# Altium footprint library Samsung-ChipResistors.PcbLib: 12 footprints
Each footprint in its own frame and in the unit in brackets; x right, y up, seen from the top. Pads: shape width x height; smd on the part's side, far side on the other; paste and mask are expansions set on the pad; w line width, h text height; cw(c..) or ccw(c..) is an arc to the next point about the centre after c.
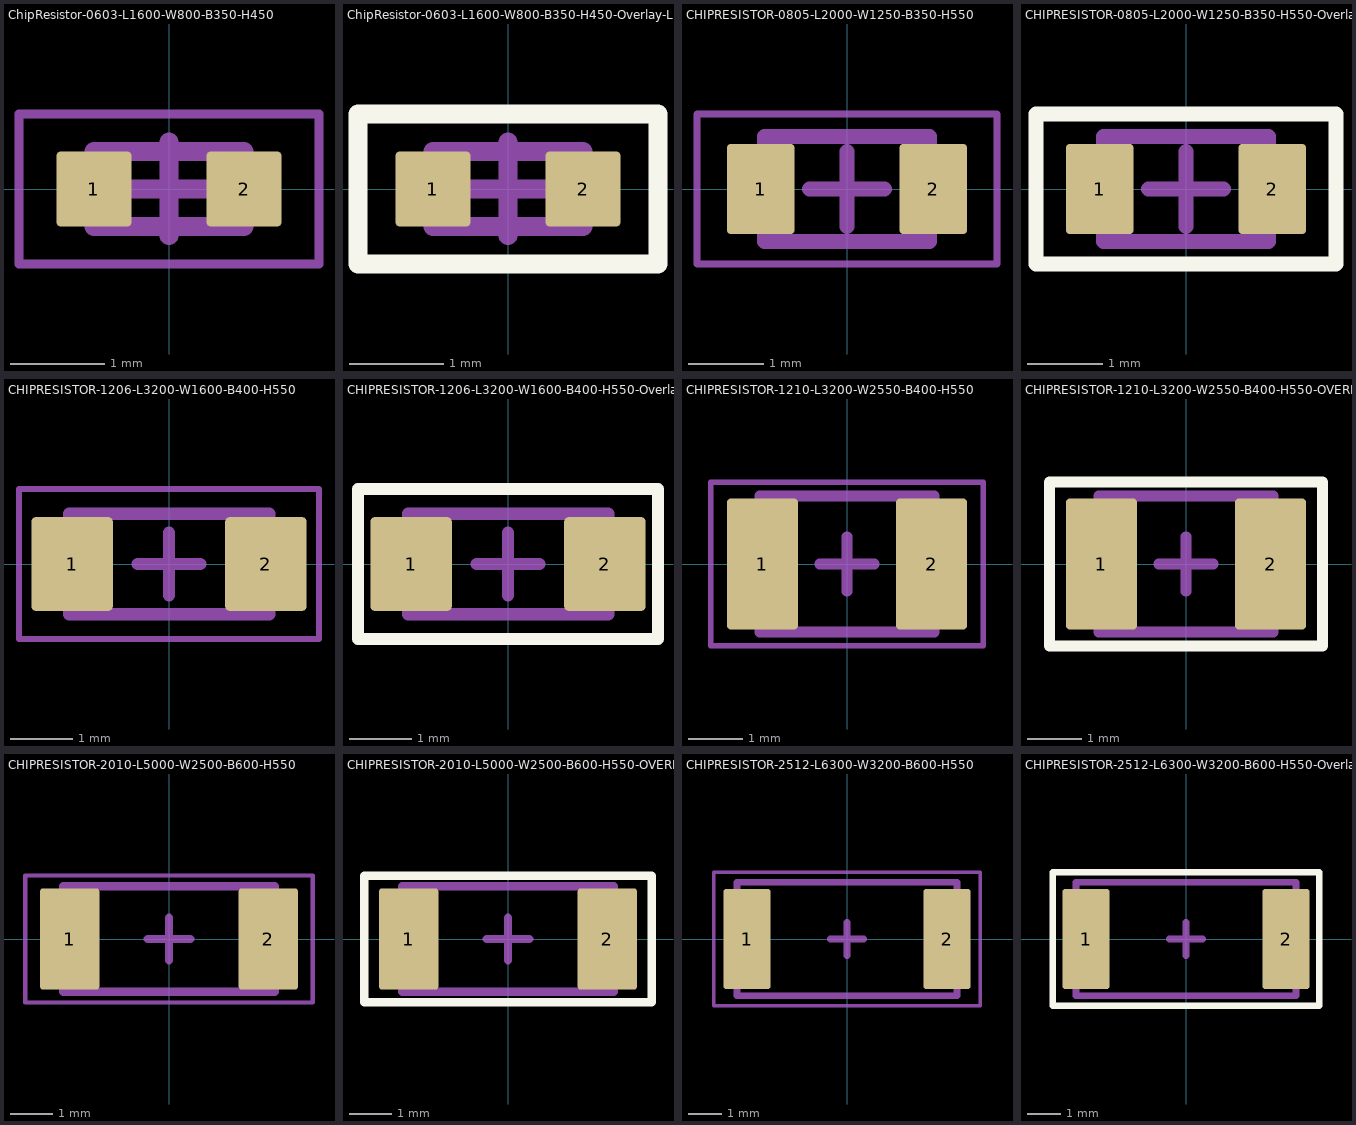
[diagram p0: the footprints below, top view; thin cyan lines are the x and y axes]

## ChipResistor-0603-L1600-W800-B350-H450 [mm] "Chip Resistor, 2-Leads, Body 1.600x0.800x0.450mm, IPC Medium Density"
height 0.45
pads (2):
  rrect10% 0.8x0.8 smd: 1(-0.8,0) 2(0.8,0)
Top Courtyard:
  lines w0.1: -1.6,-0.8 1.6,-0.8 1.6,0.8 -1.6,0.8 -1.6,-0.8
  lines w0.2: -0.5,0 0.5,0 ; 0,-0.5 0,0.5
Top Assembly:
  lines w0.2: -0.8,-0.4 0.8,-0.4 0.8,0.4 -0.8,0.4 -0.8,-0.4
Top Designator (Mech10):
  text ".Designator" at -7.618,-0.508 h1.52
3D body "Samsung-ChipResistors0603.STEP": height 0.5, standoff 0, extent -0.8,-0.4 0.8,0.4

## ChipResistor-0603-L1600-W800-B350-H450-Overlay-L3200-W1600 [mm] "Chip Resistor, 2-Leads, Body 1.600x0.800x0.450mm, IPC Medium Density"
height 0.45
pads (2):
  rrect10% 0.8x0.8 smd: 1(-0.8,0) 2(0.8,0)
Top Overlay:
  lines w0.2: -1.6,-0.8 1.6,-0.8 1.6,0.8 -1.6,0.8 -1.6,-0.8
Top Courtyard:
  lines w0.1: -1.6,-0.8 -1.6,0.8 1.6,0.8 1.6,-0.8 -1.6,-0.8
  lines w0.2: -0.5,0 0.5,0 ; 0,-0.5 0,0.5
Top Assembly:
  lines w0.2: -0.8,-0.4 0.8,-0.4 0.8,0.4 -0.8,0.4 -0.8,-0.4
Top Designator (Mech10):
  text ".Designator" at -7.618,-0.508 h1.52
3D body "Samsung-ChipResistors0603.STEP": height 0.5, standoff 0, extent -0.8,-0.4 0.8,0.4

## CHIPRESISTOR-0805-L2000-W1250-B350-H550 [mm] "Chip Resistor, 2-Leads, Body 2.000x1.250x0.550mm, IPC Medium Density"
height 0.55
pads (2):
  rrect10% 0.9x1.2 smd: 1(-1.15,0) 2(1.15,0)
Top Courtyard:
  lines w0.1: -2,-1 2,-1 2,1 -2,1 -2,-1
  lines w0.2: -0.5,0 0.5,0 ; 0,-0.5 0,0.5
Top Assembly:
  lines w0.2: -1.1,-0.7 -1.1,0.7 1.1,0.7 1.1,-0.7 -1.1,-0.7
Top Designator (Mech10):
  text ".Designator" at -7.618,-0.508 h1.52
3D body "Samsung-ChipResistors0805.STEP": height 0.6, standoff 0, extent -1,-0.625 1,0.625

## CHIPRESISTOR-0805-L2000-W1250-B350-H550-Overlay-L4000-W2000 [mm] "Chip Resistor, 2-Leads, Body 2.000x1.250x0.550mm, IPC Medium Density"
height 0.55
pads (2):
  rrect10% 0.9x1.2 smd: 1(-1.15,0) 2(1.15,0)
Top Overlay:
  lines w0.2: -2,-1 2,-1 2,1 -2,1 -2,-1
Top Courtyard:
  lines w0.1: -2,-1 -2,1 2,1 2,-1 -2,-1
  lines w0.2: -0.5,0 0.5,0 ; 0,-0.5 0,0.5
Top Assembly:
  lines w0.2: -1.1,-0.7 1.1,-0.7 1.1,0.7 -1.1,0.7 -1.1,-0.7
Top Designator (Mech10):
  text ".Designator" at -7.618,-0.508 h1.52
3D body "Samsung-ChipResistors0805.STEP": height 0.6, standoff 0, extent -1,-0.625 1,0.625

## CHIPRESISTOR-1206-L3200-W1600-B400-H550 [mm] "Chip Resistor, 2-Leads, Body 3.200x1.600mm, IPC Medium Density"
height 0.55
pads (2):
  rrect10% 1.3x1.5 smd: 1(-1.55,0) 2(1.55,0)
Top Courtyard:
  lines w0.1: -2.4,-1.2 2.4,-1.2 2.4,1.2 -2.4,1.2 -2.4,-1.2
  lines w0.2: -0.5,0 0.5,0 ; 0,-0.5 0,0.5
Top Assembly:
  lines w0.2: -1.6,-0.8 1.6,-0.8 1.6,0.8 -1.6,0.8 -1.6,-0.8
Top Designator (Mech10):
  text ".Designator" at -7.618,-0.508 h1.52
3D body "Samsung-ChipResistors1206.STEP": height 0.6, standoff 0, extent -1.6,-0.8 1.6,0.8

## CHIPRESISTOR-1206-L3200-W1600-B400-H550-Overlay-L4800-W2400 [mm] "Chip Resistor, 2-Leads, Body 3.200x1.600mm, IPC Medium Density"
height 0.55
pads (2):
  rrect10% 1.3x1.5 smd: 1(-1.55,0) 2(1.55,0)
Top Overlay:
  lines w0.2: -2.4,-1.2 2.4,-1.2 2.4,1.2 -2.4,1.2 -2.4,-1.2
Top Courtyard:
  lines w0.1: -2.4,-1.2 2.4,-1.2 2.4,1.2 -2.4,1.2 -2.4,-1.2
  lines w0.2: -0.5,0 0.5,0 ; 0,-0.5 0,0.5
Top Assembly:
  lines w0.2: -1.6,-0.8 1.6,-0.8 1.6,0.8 -1.6,0.8 -1.6,-0.8
Top Designator (Mech10):
  text ".Designator" at -7.618,-0.508 h1.52
3D body "Samsung-ChipResistors1206.STEP": height 0.6, standoff 0, extent -1.6,-0.8 1.6,0.8

## CHIPRESISTOR-1210-L3200-W2550-B400-H550 [mm] "Chip Resistor, 2-Leads, Body 3.200x2.550mm, IPC Medium Density"
height 0.55
pads (2):
  rrect10% 1.3x2.4 smd: 1(-1.55,0) 2(1.55,0)
Top Courtyard:
  lines w0.1: -2.5,-1.5 -2.5,1.5 2.5,1.5 2.5,-1.5 -2.5,-1.5
  lines w0.2: -0.5,0 0.5,0 ; 0,-0.5 0,0.5
Top Assembly:
  lines w0.2: -1.6,-1.25 1.6,-1.25 1.6,1.25 -1.6,1.25 -1.6,-1.25
Top Designator (Mech10):
  text ".Designator" at -7.618,-0.508 h1.52
3D body "Samsung-ChipResistors1210.STEP": height 0.6, standoff 0, extent -1.6,-1.275 1.6,1.275

## CHIPRESISTOR-1210-L3200-W2550-B400-H550-OVERLAY-L5000-W3000 [mm] "Chip Resistor, 2-Leads, Body 3.200x2.550mm, IPC Medium Density"
height 0.55
pads (2):
  rrect10% 1.3x2.4 smd: 1(-1.55,0) 2(1.55,0)
Top Overlay:
  lines w0.2: -2.5,-1.5 2.5,-1.5 2.5,1.5 -2.5,1.5 -2.5,-1.5
Top Courtyard:
  lines w0.1: -2.5,-1.5 -2.5,1.5 2.5,1.5 2.5,-1.5 -2.5,-1.5
  lines w0.2: -0.5,0 0.5,0 ; 0,-0.5 0,0.5
Top Assembly:
  lines w0.2: -1.6,-1.25 1.6,-1.25 1.6,1.25 -1.6,1.25 -1.6,-1.25
Top Designator (Mech10):
  text ".Designator" at -7.618,-0.508 h1.52
3D body "Samsung-ChipResistors1210.STEP": height 0.6, standoff 0, extent -1.6,-1.275 1.6,1.275

## CHIPRESISTOR-2010-L5000-W2500-B600-H550 [mm] "Chip Resistor, 2-Leads, Body 5.000x2.500mm, IPC Medium Density"
height 0.55
pads (2):
  rrect10% 1.4x2.4 smd: 1(-2.35,0) 2(2.35,0)
Top Courtyard:
  lines w0.1: -3.4,-1.5 -3.4,1.5 3.4,1.5 3.4,-1.5 -3.4,-1.5
  lines w0.2: -0.5,0 0.5,0 ; 0,-0.5 0,0.5
Top Assembly:
  lines w0.2: -2.5,-1.25 2.5,-1.25 2.5,1.25 -2.5,1.25 -2.5,-1.25
Top Designator (Mech10):
  text ".Designator" at -7.618,-0.508 h1.52
3D body "Samsung-ChipResistors2010.STEP": height 0.6, standoff 0, extent -2.5,-1.25 2.5,1.25

## CHIPRESISTOR-2010-L5000-W2500-B600-H550-OVERLAY-L6800-W3000 [mm] "Chip Resistor, 2-Leads, Body 5.000x2.500mm, IPC Medium Density"
height 0.55
pads (2):
  rrect10% 1.4x2.4 smd: 1(-2.35,0) 2(2.35,0)
Top Overlay:
  lines w0.2: -3.4,-1.5 3.4,-1.5 3.4,1.5 -3.4,1.5 -3.4,-1.5
Top Courtyard:
  lines w0.1: -3.4,-1.5 3.4,-1.5 3.4,1.5 -3.4,1.5 -3.4,-1.5
  lines w0.2: -0.5,0 0.5,0 ; 0,-0.5 0,0.5
Top Assembly:
  lines w0.2: -2.5,-1.25 -2.5,1.25 2.5,1.25 2.5,-1.25 -2.5,-1.25
Top Designator (Mech10):
  text ".Designator" at -7.618,-0.508 h1.52
3D body "Samsung-ChipResistors2010.STEP": height 0.6, standoff 0, extent -2.5,-1.25 2.5,1.25

## CHIPRESISTOR-2512-L6300-W3200-B600-H550 [mm] "Chip Resistor, 2-Leads, Body 6.300x3.200x0.550mm, IPC Medium Density"
height 0.55
pads (2):
  rrect10% 1.4x3 smd: 1(-3,0) 2(3,0)
Top Courtyard:
  lines w0.1: -4,-2 4,-2 4,2 -4,2 -4,-2
  lines w0.2: -0.5,0 0.5,0 ; 0,-0.5 0,0.5
Top Assembly:
  lines w0.2: -3.3,-1.7 3.3,-1.7 3.3,1.7 -3.3,1.7 -3.3,-1.7
Top Designator (Mech10):
  text ".Designator" at -7.618,-0.508 h1.52
3D body "Samsung-ChipResistors2512.STEP": height 0.6, standoff 0, extent -3.15,-1.6 3.15,1.6

## CHIPRESISTOR-2512-L6300-W3200-B600-H550-Overlay-L8000-W4000 [mm] "Chip Resistor, 2-Leads, Body 6.300x3.200x0.550mm, IPC Medium Density"
height 0.55
pads (2):
  rrect10% 1.4x3 smd: 1(-3,0) 2(3,0)
Top Overlay:
  lines w0.2: -4,-2 4,-2 4,2 -4,2 -4,-2
Top Courtyard:
  lines w0.1: -4,-2 4,-2 4,2 -4,2 -4,-2
  lines w0.2: -0.5,0 0.5,0 ; 0,-0.5 0,0.5
Top Assembly:
  lines w0.2: -3.3,-1.7 3.3,-1.7 3.3,1.7 -3.3,1.7 -3.3,-1.7
Top Designator (Mech10):
  text ".Designator" at -7.618,-0.508 h1.52
3D body "Samsung-ChipResistors2512.STEP": height 0.6, standoff 0, extent -3.15,-1.6 3.15,1.6